# EAGLE library part MEC8-110-02-X-D-RA1 (library samtec)
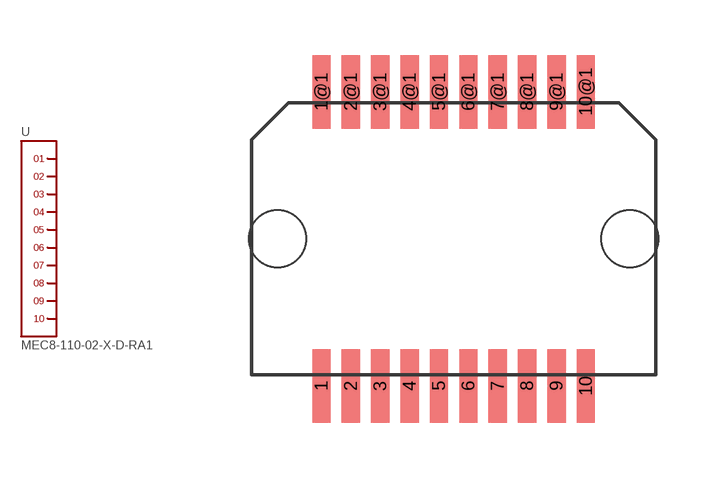
[diagram p17: symbol with the pads of MEC8-110-02-X-D-RA1; footprint MEC8-110-02-X-D-RA1]

Designator prefix -

## MEC8-110-02-X-D-RA1  [MEC8-110-02-X-D-RA1]
1  1
1@1  1
2  2
2@1  2
3  3
3@1  3
4  4
4@1  4
5  5
5@1  5
6  6
6@1  6
7  7
7@1  7
8  8
8@1  8
9  9
9@1  9
10  10
10@1  10

## Footprint MEC8-110-02-X-D-RA1 (pad centres in mm)
smd 0.5 x 2: 1 -3.6,-4; 1@1 -3.6,4; 2 -2.8,-4; 2@1 -2.8,4; 3 -2,-4; 3@1 -2,4; 4 -1.2,-4; 4@1 -1.2,4; 5 -0.4,-4; 5@1 -0.4,4; 6 0.4,-4; 6@1 0.4,4; 7 1.2,-4; 7@1 1.2,4; 8 2,-4; 8@1 2,4; 9 2.8,-4; 9@1 2.8,4; 10 3.6,-4; 10@1 3.6,4
hole 1.55 at -4.8,0
hole 1.55 at 4.8,0